# Altium schematic symbol library Sensors.SchLib: 10 symbols
Pins are listed as number, name and electrical type; pins without a type are passive.

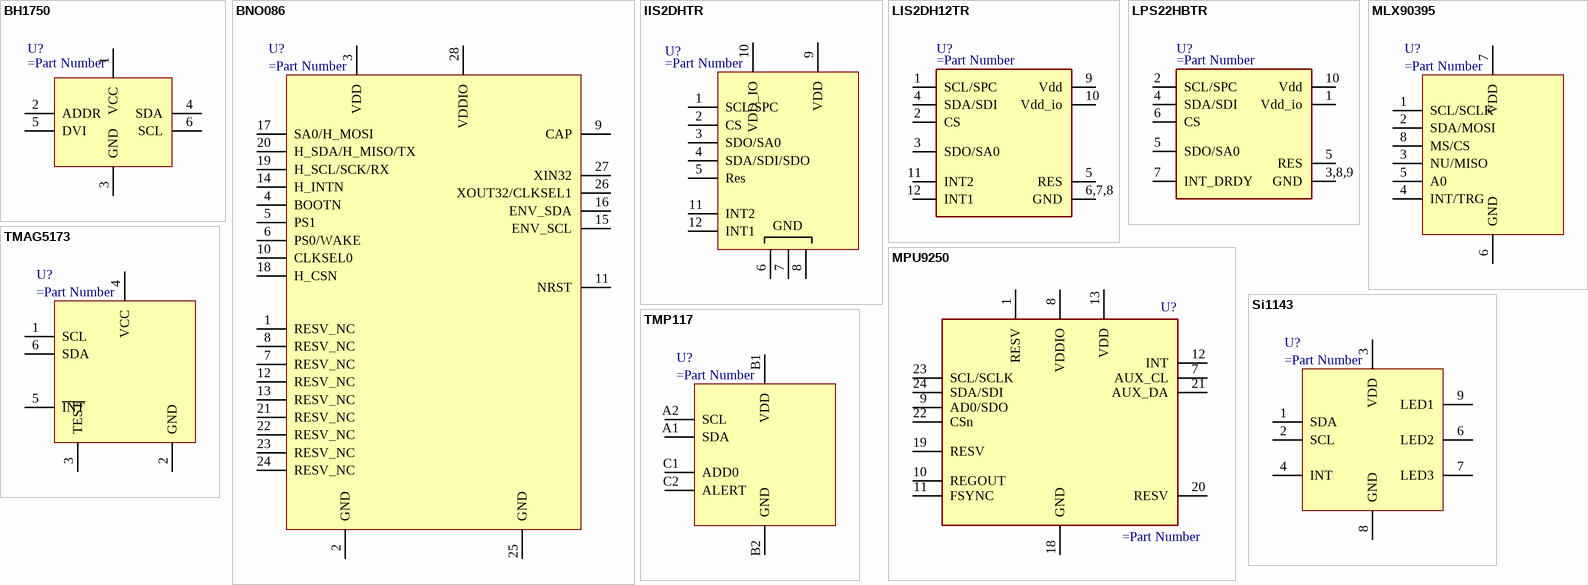
[diagram p0: symbols BH1750 to TMP117]

## BH1750
designator U?
pins: 1 VCC, 2 ADDR, 3 GND, 4 SDA, 5 DVI, 6 SCL

## BNO086
designator U?
pins: 1 RESV_NC, 2 GND, 3 VDD, 4 BOOTN, 5 PS1, 6 PS0/WAKE, 7 RESV_NC, 8 RESV_NC, 9 CAP, 10 CLKSEL0, 11 NRST, 12 RESV_NC, 13 RESV_NC, 14 H_INTN, 15 ENV_SCL, 16 ENV_SDA, 17 SA0/H_MOSI, 18 H_CSN, 19 H_SCL/SCK/RX, 20 H_SDA/H_MISO/TX, 21 RESV_NC, 22 RESV_NC, 23 RESV_NC, 24 RESV_NC, 25 GND, 26 XOUT32/CLKSEL1, 27 XIN32, 28 VDDIO

## IIS2DHTR
designator U?
pins: 1 SCL/SPC, 2 CS, 3 SDO/SA0, 4 SDA/SDI/SDO, 5 Res, 6 GND, 7 GND, 8 GND, 9 VDD, 10 VDD_IO, 11 INT2, 12 INT1

## LIS2DH12TR
designator U?
pins: 1 SCL/SPC, 2 CS, 3 SDO/SA0, 4 SDA/SDI, 5 RES, 6,7,8 GND, 9 Vdd, 10 Vdd_io, 11 INT2, 12 INT1

## LPS22HBTR
designator U?
pins: 1 Vdd_io, 2 SCL/SPC, 3,8,9 GND, 4 SDA/SDI, 5 SDO/SA0, 5 RES, 6 CS, 7 INT_DRDY, 10 Vdd

## MLX90395
designator U?
pins: 1 SCL/SCLK, 2 SDA/MOSI, 3 NU/MISO, 4 INT/TRG, 5 A0, 6 GND, 7 VDD, 8 MS/CS

## MPU9250
designator U?
pins: 1 RESV, 7 AUX_CL, 8 VDDIO, 9 AD0/SDO, 10 REGOUT, 11 FSYNC, 12 INT, 13 VDD, 18 GND, 19 RESV, 20 RESV, 21 AUX_DA, 22 CSn, 23 SCL/SCLK, 24 SDA/SDI

## Si1143
designator U?
pins: 1 SDA, 2 SCL, 3 VDD, 4 INT, 6 LED2, 7 LED3, 8 GND, 9 LED1

## TMAG5173
designator U?
pins: 1 SCL, 2 GND, 3 TEST, 4 VCC, 5 ~{INT}, 6 SDA

## TMP117
designator U?
pins: A1 SDA, A2 SCL, B1 VDD, B2 GND, C1 ADD0, C2 ALERT